# Altium footprint library Cap 11x22.PcbLib: 16 footprints
Each footprint in its own frame and in the unit in brackets; x right, y up, seen from the top. Pads: shape width x height; smd on the part's side, far side on the other; paste and mask are expansions set on the pad; w line width, h text height; cw(c..) or ccw(c..) is an arc to the next point about the centre after c.
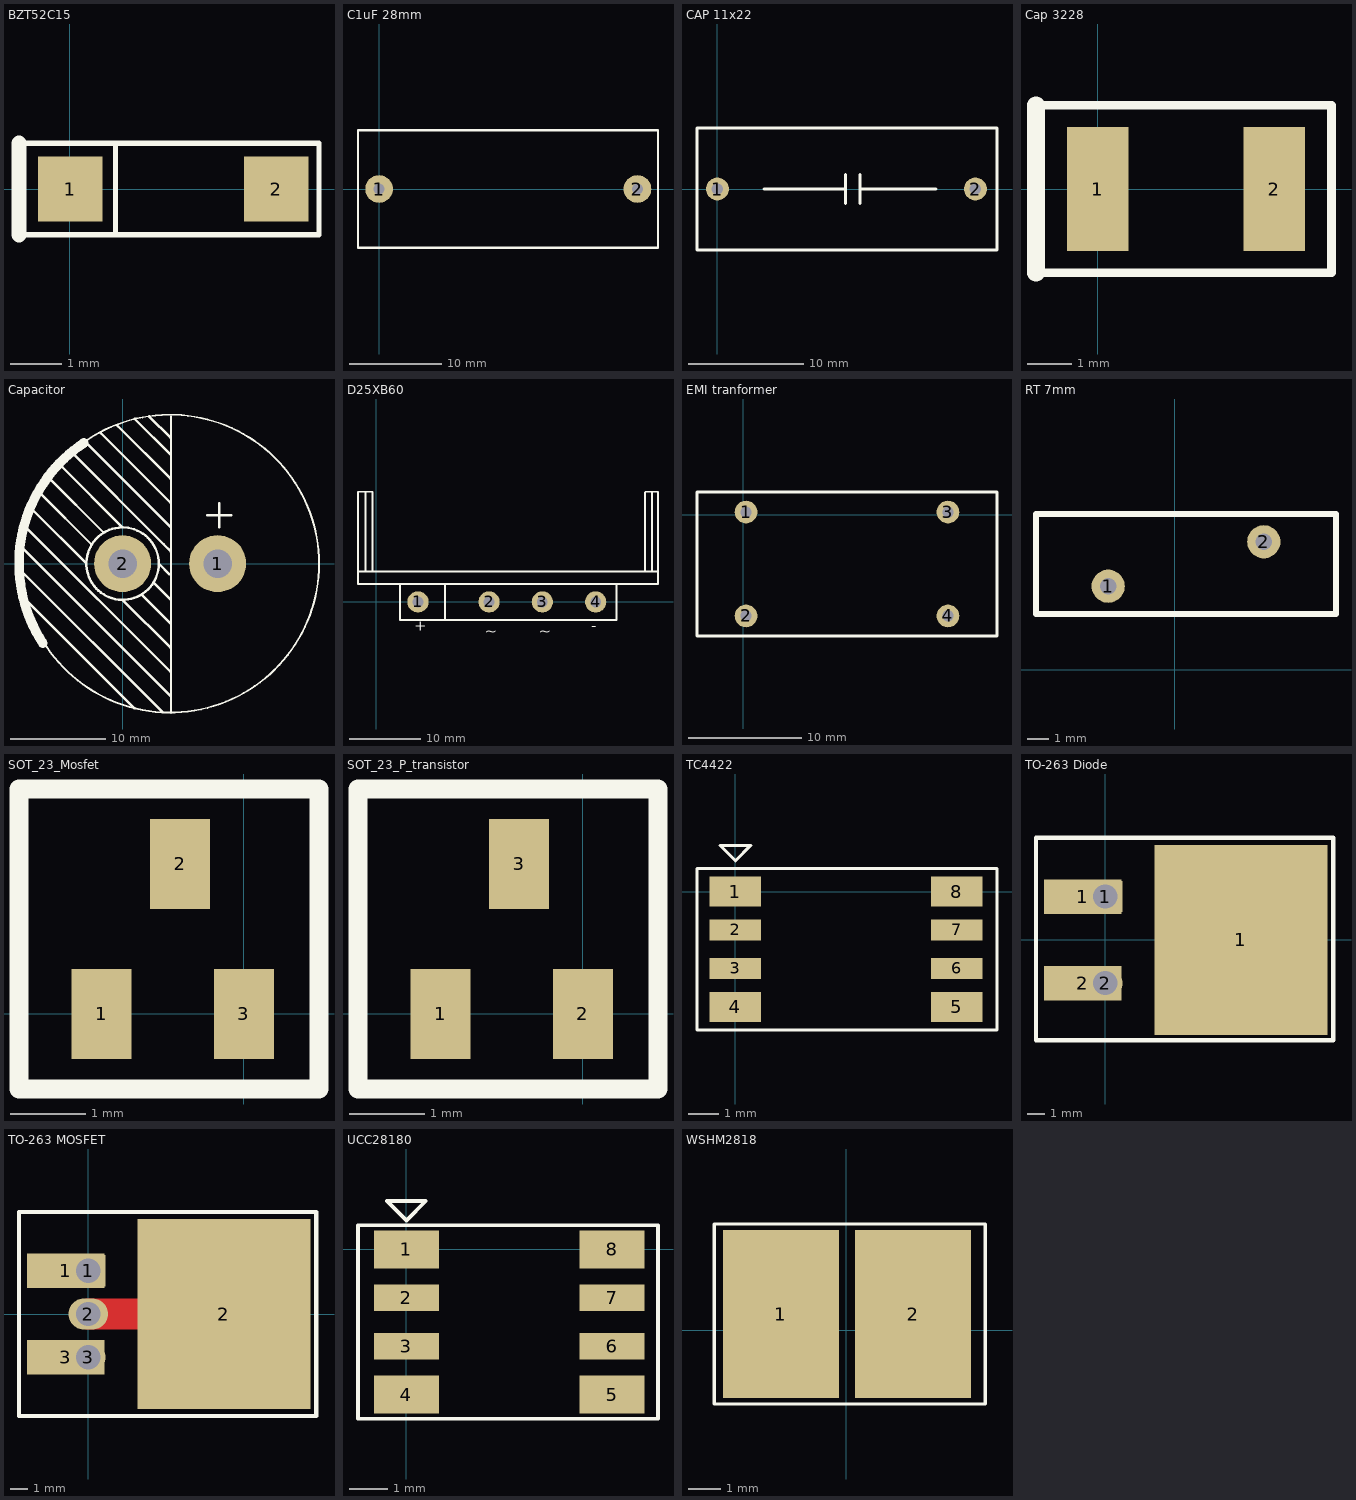
[diagram p0: the footprints below, top view; thin cyan lines are the x and y axes]

## BZT52C15 [mm]
pads (2):
  rect 1.27x1.27 smd: 1(0.007,0) 2(4.057,0)
Top Overlay:
  lines w0.1: -1,-0.9 4.9,-0.9 4.9,0.9 -1,0.9 ; 0.9,-0.9 0.9,0.9
  lines w0.3: -1,-0.9 -1,0.9

## C1uF 28mm [mm]
pads (2):
  round 3 hole 1.2: 1(0,0) 2(28,0)
Top Overlay:
  lines w0.254: -2.286,-6.35 -2.286,6.35 30.226,6.35 30.226,-6.35 -2.286,-6.35

## CAP 11x22 [mm] "cap 11x22mm"
pads (2):
  round 2 hole 1: 1(0,0) 2(22.5,0)
Top Overlay:
  lines w0.254: 4.064,0 11.176,0 ; 11.176,-1.27 11.176,1.27 ; 12.446,-1.27 12.446,1.27 ; 12.446,0 19.05,0 ; -1.778,-5.334 -1.778,5.334 24.384,5.334 24.384,-5.334 -1.778,-5.334

## Cap 3228 [mm]
pads (2):
  rect 1.4x2.8 smd: 1(0,0) 2(4,0)
Top Overlay:
  lines w0.2: -1.4,-1.9 5.3,-1.9 5.3,1.9 2.625,1.9 1.375,1.9 -1.4,1.9
  lines w0.4: -1.4,-1.9 -1.4,1.9

## Capacitor [mm]
pads (2):
  round 6 hole 3: 1(10,0) 2(0,0)
Top Overlay:
  circle w0.254: c0,0 r3.81
  circle w0.2: c5,0 r15.67
  lines w0.2: 5.08,-15.748 5.08,15.494
  lines w0.254: -10.668,-0.762 4.191,-15.621 ; -10.414,1.524 5.08,-13.97 ; -10.16,-3.81 1.27,-15.24 ; -10.16,3.81 5.08,-11.43 ; -9.398,5.588 -3.81,0 ; -8.636,7.366 -3.302,2.032 ; -7.62,8.89 -2.032,3.302 ; -6.604,10.414 0,3.81 ; -5.334,11.684 4.318,2.032 5.08,1.27 ; -3.81,12.7 5.08,3.81 ; -2.286,13.716 5.08,6.35 ; -0.508,14.478 5.08,8.89 ; 0,-3.81 5.08,-8.89 ; 1.27,15.24 5.08,11.43 ; 2.032,-3.302 5.08,-6.35 ; 2.794,15.494 5.08,13.208 ; 3.302,-2.032 5.08,-3.81 ; 3.81,0 4.953,-1.143 ; 8.89,5.08 11.43,5.08 ; 10.16,3.81 10.16,6.35
  lines w1: -8.382,-8.382 cw(c4.318,0) -4.064,12.7

## D25XB60 [mm]
pads (4):
  round 3 hole 1.5: 1(5.9,0) 2(15.9,0) 3(23.4,0) 4(30.9,0)
Top Overlay:
  lines w0.254: -2.54,4.3 -0.5,4.3 -0.5,15.5 -2.54,15.5 -2.54,2.54 39.67,2.54 39.67,15.5 37.93,15.5 37.83,15.4 37.83,4.3 ; -1.5,4.3 -1.5,15.4 ; -0.7,4.3 36.79,4.3 38.83,4.3 ; 9.71,-2.54 9.71,2.54 3.36,2.54 ; 38.83,15.5 38.83,4.3 ; 39.57,4.3 38.83,4.3 ; 3.36,2.54 3.36,-2.54 33.84,-2.54 33.84,2.54 3.36,2.54
  text "~" at 22.918,-4.826 h1.52
  text "~" at 15.298,-4.826 h1.52
  text "-" at 30.284,-4.064 h1.52
  text "+" at 5.392,-4.064 h1.52

## EMI tranformer [mm]
pads (4):
  round 2 hole 1: 1(0.254,0.254) 2(0.254,-8.89) 3(18.034,0.254) 4(18.034,-8.89)
Top Overlay:
  lines w0.254: -4.064,-10.668 -4.064,2.032 22.352,2.032 22.352,-10.668 -4.064,-10.668

## PCBComponent_1 [mm]

## RT 7mm [mil]
pads (2):
  round 60 hole 30: 1(-120,150) 2(160,230)
Top Overlay:
  lines w10: -250,100 -250,280 290,280 290,100 -250,100

## SOT_23_Mosfet [mm]
pads (3):
  rect 0.8x1.2 smd: 1(-1.9,0) 2(-0.85,2) 3(0,0)
Top Overlay:
  lines w0.254: -3,-1 1,-1 1,3 -3,3 -3,-1

## SOT_23_P_transistor [mm]
pads (3):
  rect 0.8x1.2 smd: 1(-1.9,0) 2(0,0) 3(-0.85,2)
Top Overlay:
  lines w0.254: -3,-1 -3,3 1,3 1,-1 -3,-1

## TC4422 [mm]
pads (8):
  rect 1.7x1 smd: 1(0,0) 4(0,-3.81) 5(7.3,-3.81) 8(7.3,0)
  rect 1.7x0.7 smd: 2(0,-1.27) 3(0,-2.54) 6(7.3,-2.54) 7(7.3,-1.27)
Top Overlay:
  lines w0.1: -1.27,-4.572 -1.27,0.762 8.636,0.762 8.636,-4.572 -1.27,-4.572 ; -0.508,1.524 0.508,1.524 0,1.016 -0.508,1.524

## TO-263 Diode [mm]
pads (5):
  rect 4.5x2 smd: 1(-1.3,2.5) 2(-1.3,-2.5)
  rect 2x1.8 hole 1.4: 1(0,2.5)
  rect 10x11 smd: 1(7.85,0)
  oval 2x1.8 hole 1.4: 2(0,-2.5)
Top Overlay:
  lines w0.254: -4,-5.8 -4,5.9 13.2,5.9 13.2,-5.8 -4,-5.8

## TO-263 MOSFET [mm]
pads (6):
  rect 4.5x2 smd: 1(-1.3,2.5) 3(-1.3,-2.5)
  rect 2x1.8 hole 1.4: 1(0,2.5)
  oval 2.3x1.8 hole 1.4: 2(0,0)
  rect 10x11 smd: 2(7.85,0)
  oval 2x1.8 hole 1.4: 3(0,-2.5)
Top Layer:
  lines w1.8: 0,0 7.2,0
  lines w2: 7.2,0 7.3,-0.1
Top Overlay:
  lines w0.254: -4,-5.9 13.2,-5.9 13.2,5.9 -4,5.9 -4,-5.9

## UCC28180 [mm]
pads (8):
  rect 1.7x1 smd: 1(0,0) 4(0,-3.81) 5(5.4,-3.81) 8(5.4,0)
  rect 1.7x0.7 smd: 2(0,-1.27) 3(0,-2.54) 6(5.4,-2.54) 7(5.4,-1.27)
Top Overlay:
  lines w0.1: -1.27,-4.445 -1.27,0.635 3.017,0.635 6.604,0.635 6.604,-4.445 -1.27,-4.445 ; -0.508,1.27 0,0.762 0.508,1.27 -0.508,1.27

## WSHM2818 [mm]
pads (2):
  rect 3.6x5.2 smd: 1(-2.027,0.508) 2(2.083,0.508)
Top Overlay:
  lines w0.1: -4.089,-2.286 -4.089,0.508 -4.089,3.302 4.318,3.302 4.318,-2.286 -4.089,-2.286